# Altium integrated library Linear Technology Power Management Switching Regulator LT1074-LT8705.IntLib: 2252 symbols (part 127 of 148)
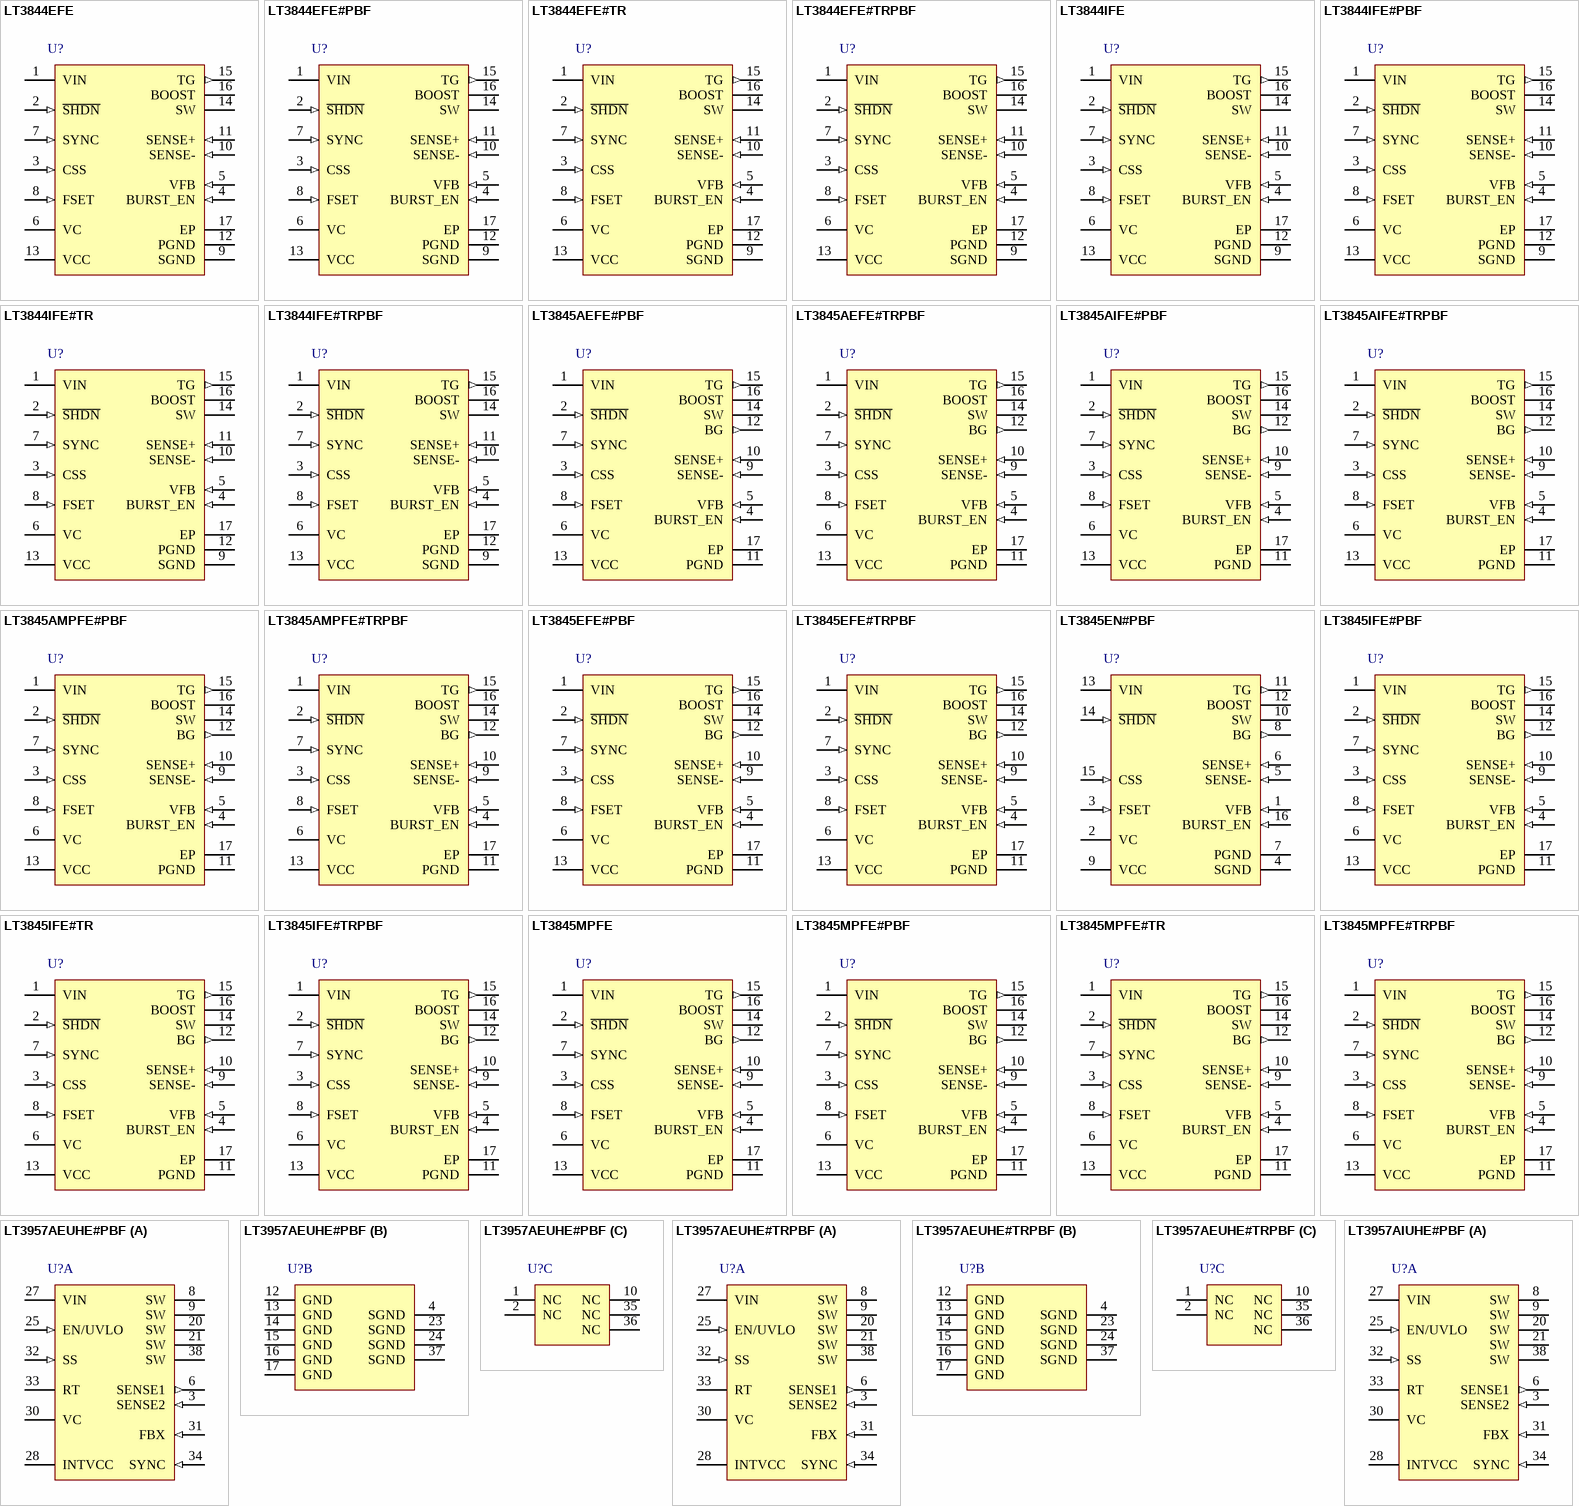
[diagram p197: symbols LT3844EFE to LT3957AIUHE#PBF]

## LT3845MPFE
designator U?
High Voltage Synchronous Current Mode Step-Down Controller with Adjustable Operating Frequency, 16-pin SOP (FE-16-EPV-BC), -55 to 125 degC; Manufacturer: Linear Technology; PartNumber: LT3845MPFE; Frequency Adjust Range: 100kHz - 500kHz; Number of Outputs: 1; DatasheetVersion: Rev. D; PackageVersion: Rev. J, 11/2012; PackageReference: FE-16; PackageDescription: 16-Pin Plastic TSSOP, Body 5 x 4.4 mm, Pitch 0.65 mm; RoHS: FALSE; Mounting Technology: Surface Mount; ComponentLink1Description: Manufacturer URL; ComponentLink1URL: http://www.linear.com/; ComponentLink2Description: Datasheet; ComponentLink2URL: http://cds.linear.com/docs/en/datasheet/3845fd.pdf; ComponentLink3Description: Package Specification; ComponentLink3URL: http://cds.linear.com/docs/en/packaging/05081663__J_FE16(BC).pdf
footprint LT-FE-16-EPV-BC_N (SOP, 16-Leads, Body 5.1x4.5mm, Pitch 0.65mm, Thermal Pad 3.58x2.94mm, IPC Medium Density)
footprint LT-FE-16-EPV-BC_L (SOP, 16-Leads, Body 5.1x4.5mm, Pitch 0.65mm, Thermal Pad 3.58x2.94mm, IPC High Density)
footprint LT-FE-16-EPV-BC_M (SOP, 16-Leads, Body 5.1x4.5mm, Pitch 0.65mm, Thermal Pad 3.58x2.94mm, IPC Low Density)
pins: 1 VIN (power) "The VIN pin is the main supply pin and should be decoupled to SGND with a low ESR capacitor (at least 0.1uF) located close to the pin.", 2 ~{SHDN} (in) "The S\H\D\N\ pin has a precision IC enable threshold of 1.35V (rising) with 120mV of hysteresis. It is used to implement an undervoltage lockout (UVLO) circuit. See Application Information section for implementing a UVLO (See Datasheet)", 3 CSS (in) "The soft-start pin is used to program the supply softstart function. Use the following formula to calculate CSS for a given output voltage slew rate: CSS = 2uA(tSS/1.231V) The pin should be left unconnected when not using (See Datasheet)", 4 BURST_EN (in) "Burst Mode Operation Enable Pin. This pin also controls reverse-current inhibit mode of operation. When the pin voltage is below 0.5V, Burst Mode operation and reverse-current inhibit functions are enabled. When the pin (See Datasheet)", 5 VFB (in) "The output voltage feedback pin, VFB, is externally connected to the supply output voltage via a resistive divider. The VFB pin is internally connected to the inverting input of the error amplifier. In regulation, VFB is 1.(See Datasheet)", 6 VC "The VC pin is the output of the error amplifier whose voltage corresponds to the maximum (peak) switch current per oscillator cycle. The error amplifier is typically configured as an integrator by connecting an RC network (See Datasheet)", 7 SYNC (in) "The Sync pin provides an external clock input for synchronization of the internal oscillator. RSET is set such that the internal oscillator frequency is 10% to 25% below the external clock frequency. If unused the Sync pin (See Datasheet)", 8 FSET (in) "The FSET pin programs the oscillator frequency with an external resistor, RSET. The resistor is required even when supplying external sync clock signal. See the Applications Information section for resistor value selection (See Datasheet)", 9 SENSE- (in) "The SENSE- pin is the negative input for the current sense amplifier and is connected to the VOUT side of the sense resistor for step-down applications.", 10 SENSE+ (in) "The SENSE+ pin is the positive input for the current sense amplifier and is connected to the inductor side of the sense resistor for step-down applications.", 11 PGND (power) "The PGND pin is the high-current ground reference for internal low side switch driver and the VCC regulator circuit. Connect the pin directly to the negative terminal of the VCC decoupling capacitor. See the Application (See Datasheet)", 12 BG (out) "The BG pin is the gate drive for the bottom N-channel MOSFET. Since very fast high currents are driven from this pin, connect it to the gate of the power MOSFET with a short and wide, typically 0.02" width, PCB trace to (See Datasheet)", 13 VCC (power) "The VCC pin is the internal bias supply decoupling node. Use a low ESR, 1uF or greater ceramic capacitor to decouple this node to PGND. Most internal IC functions are powered from this bias supply. An external diode (See Datasheet)", 14 SW "Reference for VBOOST Supply and High Current Return for Bootstrapped Switch.", 15 TG (out) "The TG pin is the bootstrapped gate drive for the top N-Channel MOSFET. Since very fast high currents are driven from this pin, connect it to the gate of the power MOSFET with a short and wide, typically 0.02'' width, PC(See Datasheet)", 16 BOOST "The BOOST pin is the supply for the bootstrapped gate drive and is externally connected to a low ESR ceramic boost capacitor referenced to SW pin. The recommended value of the BOOST capacitor, CBOOST, is at least 50 times (See Datasheet)", 17 EP (power) "The exposed leadframe is internally connected to the SGND pin. Solder the exposed pad to the PCB ground for electrical contact and optimal thermal performance."

## LT3845MPFE#PBF
designator U?
High Voltage Synchronous Current Mode Step-Down Controller with Adjustable Operating Frequency, 16-pin SOP (FE-16-EPV-BC), -55 to 125 degC, Pb-Free; Manufacturer: Linear Technology; PartNumber: LT3845MPFE#PBF; Frequency Adjust Range: 100kHz - 500kHz; Number of Outputs: 1; DatasheetVersion: Rev. D; PackageVersion: Rev. J, 11/2012; PackageReference: FE-16; PackageDescription: 16-Pin Plastic TSSOP, Body 5 x 4.4 mm, Pitch 0.65 mm; Supplier 1: Digi-Key; Supplier Part Number 1: LT3845MPFE#PBF-ND; Supplier 2: Farnell; Supplier Part Number 2: 2115925; Supplier 3: Newark; Supplier Part Number 3: 63R6869; RoHS: TRUE; Mounting Technology: Surface Mount; ComponentLink1Description: Manufacturer URL; ComponentLink1URL: http://www.linear.com/; ComponentLink2Description: Datasheet; ComponentLink2URL: http://cds.linear.com/docs/en/datasheet/3845fd.pdf; ComponentLink3Description: Package Specification; ComponentLink3URL: http://cds.linear.com/docs/en/packaging/05081663__J_FE16(BC).pdf
footprint LT-FE-16-EPV-BC_N (SOP, 16-Leads, Body 5.1x4.5mm, Pitch 0.65mm, Thermal Pad 3.58x2.94mm, IPC Medium Density)
footprint LT-FE-16-EPV-BC_L (SOP, 16-Leads, Body 5.1x4.5mm, Pitch 0.65mm, Thermal Pad 3.58x2.94mm, IPC High Density)
footprint LT-FE-16-EPV-BC_M (SOP, 16-Leads, Body 5.1x4.5mm, Pitch 0.65mm, Thermal Pad 3.58x2.94mm, IPC Low Density)
pins: 1 VIN (power) "The VIN pin is the main supply pin and should be decoupled to SGND with a low ESR capacitor (at least 0.1uF) located close to the pin.", 2 ~{SHDN} (in) "The S\H\D\N\ pin has a precision IC enable threshold of 1.35V (rising) with 120mV of hysteresis. It is used to implement an undervoltage lockout (UVLO) circuit. See Application Information section for implementing a UVLO (See Datasheet)", 3 CSS (in) "The soft-start pin is used to program the supply softstart function. Use the following formula to calculate CSS for a given output voltage slew rate: CSS = 2uA(tSS/1.231V) The pin should be left unconnected when not using (See Datasheet)", 4 BURST_EN (in) "Burst Mode Operation Enable Pin. This pin also controls reverse-current inhibit mode of operation. When the pin voltage is below 0.5V, Burst Mode operation and reverse-current inhibit functions are enabled. When the pin (See Datasheet)", 5 VFB (in) "The output voltage feedback pin, VFB, is externally connected to the supply output voltage via a resistive divider. The VFB pin is internally connected to the inverting input of the error amplifier. In regulation, VFB is 1.(See Datasheet)", 6 VC "The VC pin is the output of the error amplifier whose voltage corresponds to the maximum (peak) switch current per oscillator cycle. The error amplifier is typically configured as an integrator by connecting an RC network (See Datasheet)", 7 SYNC (in) "The Sync pin provides an external clock input for synchronization of the internal oscillator. RSET is set such that the internal oscillator frequency is 10% to 25% below the external clock frequency. If unused the Sync pin (See Datasheet)", 8 FSET (in) "The FSET pin programs the oscillator frequency with an external resistor, RSET. The resistor is required even when supplying external sync clock signal. See the Applications Information section for resistor value selection (See Datasheet)", 9 SENSE- (in) "The SENSE- pin is the negative input for the current sense amplifier and is connected to the VOUT side of the sense resistor for step-down applications.", 10 SENSE+ (in) "The SENSE+ pin is the positive input for the current sense amplifier and is connected to the inductor side of the sense resistor for step-down applications.", 11 PGND (power) "The PGND pin is the high-current ground reference for internal low side switch driver and the VCC regulator circuit. Connect the pin directly to the negative terminal of the VCC decoupling capacitor. See the Application (See Datasheet)", 12 BG (out) "The BG pin is the gate drive for the bottom N-channel MOSFET. Since very fast high currents are driven from this pin, connect it to the gate of the power MOSFET with a short and wide, typically 0.02" width, PCB trace to (See Datasheet)", 13 VCC (power) "The VCC pin is the internal bias supply decoupling node. Use a low ESR, 1uF or greater ceramic capacitor to decouple this node to PGND. Most internal IC functions are powered from this bias supply. An external diode (See Datasheet)", 14 SW "Reference for VBOOST Supply and High Current Return for Bootstrapped Switch.", 15 TG (out) "The TG pin is the bootstrapped gate drive for the top N-Channel MOSFET. Since very fast high currents are driven from this pin, connect it to the gate of the power MOSFET with a short and wide, typically 0.02'' width, PC(See Datasheet)", 16 BOOST "The BOOST pin is the supply for the bootstrapped gate drive and is externally connected to a low ESR ceramic boost capacitor referenced to SW pin. The recommended value of the BOOST capacitor, CBOOST, is at least 50 times (See Datasheet)", 17 EP (power) "The exposed leadframe is internally connected to the SGND pin. Solder the exposed pad to the PCB ground for electrical contact and optimal thermal performance."

## LT3845MPFE#TR
designator U?
High Voltage Synchronous Current Mode Step-Down Controller with Adjustable Operating Frequency, 16-pin SOP (FE-16-EPV-BC), -55 to 125 degC, Pb-Free, Tape and Reel; Manufacturer: Linear Technology; PartNumber: LT3845MPFE#TR; Frequency Adjust Range: 100kHz - 500kHz; Number of Outputs: 1; DatasheetVersion: Rev. D; PackageVersion: Rev. J, 11/2012; PackageReference: FE-16; PackageDescription: 16-Pin Plastic TSSOP, Body 5 x 4.4 mm, Pitch 0.65 mm; Supplier 1: Digi-Key; Supplier Part Number 1: LT3845MPFE#TR-ND; Packing: Tape and Reel; RoHS: TRUE; Mounting Technology: Surface Mount; ComponentLink1Description: Manufacturer URL; ComponentLink1URL: http://www.linear.com/; ComponentLink2Description: Datasheet; ComponentLink2URL: http://cds.linear.com/docs/en/datasheet/3845fd.pdf; ComponentLink3Description: Package Specification; ComponentLink3URL: http://cds.linear.com/docs/en/packaging/05081663__J_FE16(BC).pdf
footprint LT-FE-16-EPV-BC_N (SOP, 16-Leads, Body 5.1x4.5mm, Pitch 0.65mm, Thermal Pad 3.58x2.94mm, IPC Medium Density)
footprint LT-FE-16-EPV-BC_L (SOP, 16-Leads, Body 5.1x4.5mm, Pitch 0.65mm, Thermal Pad 3.58x2.94mm, IPC High Density)
footprint LT-FE-16-EPV-BC_M (SOP, 16-Leads, Body 5.1x4.5mm, Pitch 0.65mm, Thermal Pad 3.58x2.94mm, IPC Low Density)
pins: 1 VIN (power) "The VIN pin is the main supply pin and should be decoupled to SGND with a low ESR capacitor (at least 0.1uF) located close to the pin.", 2 ~{SHDN} (in) "The S\H\D\N\ pin has a precision IC enable threshold of 1.35V (rising) with 120mV of hysteresis. It is used to implement an undervoltage lockout (UVLO) circuit. See Application Information section for implementing a UVLO (See Datasheet)", 3 CSS (in) "The soft-start pin is used to program the supply softstart function. Use the following formula to calculate CSS for a given output voltage slew rate: CSS = 2uA(tSS/1.231V) The pin should be left unconnected when not using (See Datasheet)", 4 BURST_EN (in) "Burst Mode Operation Enable Pin. This pin also controls reverse-current inhibit mode of operation. When the pin voltage is below 0.5V, Burst Mode operation and reverse-current inhibit functions are enabled. When the pin (See Datasheet)", 5 VFB (in) "The output voltage feedback pin, VFB, is externally connected to the supply output voltage via a resistive divider. The VFB pin is internally connected to the inverting input of the error amplifier. In regulation, VFB is 1.(See Datasheet)", 6 VC "The VC pin is the output of the error amplifier whose voltage corresponds to the maximum (peak) switch current per oscillator cycle. The error amplifier is typically configured as an integrator by connecting an RC network (See Datasheet)", 7 SYNC (in) "The Sync pin provides an external clock input for synchronization of the internal oscillator. RSET is set such that the internal oscillator frequency is 10% to 25% below the external clock frequency. If unused the Sync pin (See Datasheet)", 8 FSET (in) "The FSET pin programs the oscillator frequency with an external resistor, RSET. The resistor is required even when supplying external sync clock signal. See the Applications Information section for resistor value selection (See Datasheet)", 9 SENSE- (in) "The SENSE- pin is the negative input for the current sense amplifier and is connected to the VOUT side of the sense resistor for step-down applications.", 10 SENSE+ (in) "The SENSE+ pin is the positive input for the current sense amplifier and is connected to the inductor side of the sense resistor for step-down applications.", 11 PGND (power) "The PGND pin is the high-current ground reference for internal low side switch driver and the VCC regulator circuit. Connect the pin directly to the negative terminal of the VCC decoupling capacitor. See the Application (See Datasheet)", 12 BG (out) "The BG pin is the gate drive for the bottom N-channel MOSFET. Since very fast high currents are driven from this pin, connect it to the gate of the power MOSFET with a short and wide, typically 0.02" width, PCB trace to (See Datasheet)", 13 VCC (power) "The VCC pin is the internal bias supply decoupling node. Use a low ESR, 1uF or greater ceramic capacitor to decouple this node to PGND. Most internal IC functions are powered from this bias supply. An external diode (See Datasheet)", 14 SW "Reference for VBOOST Supply and High Current Return for Bootstrapped Switch.", 15 TG (out) "The TG pin is the bootstrapped gate drive for the top N-Channel MOSFET. Since very fast high currents are driven from this pin, connect it to the gate of the power MOSFET with a short and wide, typically 0.02'' width, PC(See Datasheet)", 16 BOOST "The BOOST pin is the supply for the bootstrapped gate drive and is externally connected to a low ESR ceramic boost capacitor referenced to SW pin. The recommended value of the BOOST capacitor, CBOOST, is at least 50 times (See Datasheet)", 17 EP (power) "The exposed leadframe is internally connected to the SGND pin. Solder the exposed pad to the PCB ground for electrical contact and optimal thermal performance."

## LT3845MPFE#TRPBF
designator U?
High Voltage Synchronous Current Mode Step-Down Controller with Adjustable Operating Frequency, 16-pin SOP (FE-16-EPV-BC), -55 to 125 degC, Pb-Free, Tape and Reel; Manufacturer: Linear Technology; PartNumber: LT3845MPFE#TRPBF; Frequency Adjust Range: 100kHz - 500kHz; Number of Outputs: 1; DatasheetVersion: Rev. D; PackageVersion: Rev. J, 11/2012; PackageReference: FE-16; PackageDescription: 16-Pin Plastic TSSOP, Body 5 x 4.4 mm, Pitch 0.65 mm; Supplier 1: Digi-Key; Supplier Part Number 1: LT3845MPFE#TRPBF-ND; Packing: Tape and Reel; RoHS: TRUE; Mounting Technology: Surface Mount; ComponentLink1Description: Manufacturer URL; ComponentLink1URL: http://www.linear.com/; ComponentLink2Description: Datasheet; ComponentLink2URL: http://cds.linear.com/docs/en/datasheet/3845fd.pdf; ComponentLink3Description: Package Specification; ComponentLink3URL: http://cds.linear.com/docs/en/packaging/05081663__J_FE16(BC).pdf
footprint LT-FE-16-EPV-BC_N (SOP, 16-Leads, Body 5.1x4.5mm, Pitch 0.65mm, Thermal Pad 3.58x2.94mm, IPC Medium Density)
footprint LT-FE-16-EPV-BC_L (SOP, 16-Leads, Body 5.1x4.5mm, Pitch 0.65mm, Thermal Pad 3.58x2.94mm, IPC High Density)
footprint LT-FE-16-EPV-BC_M (SOP, 16-Leads, Body 5.1x4.5mm, Pitch 0.65mm, Thermal Pad 3.58x2.94mm, IPC Low Density)
pins: 1 VIN (power) "The VIN pin is the main supply pin and should be decoupled to SGND with a low ESR capacitor (at least 0.1uF) located close to the pin.", 2 ~{SHDN} (in) "The S\H\D\N\ pin has a precision IC enable threshold of 1.35V (rising) with 120mV of hysteresis. It is used to implement an undervoltage lockout (UVLO) circuit. See Application Information section for implementing a UVLO (See Datasheet)", 3 CSS (in) "The soft-start pin is used to program the supply softstart function. Use the following formula to calculate CSS for a given output voltage slew rate: CSS = 2uA(tSS/1.231V) The pin should be left unconnected when not using (See Datasheet)", 4 BURST_EN (in) "Burst Mode Operation Enable Pin. This pin also controls reverse-current inhibit mode of operation. When the pin voltage is below 0.5V, Burst Mode operation and reverse-current inhibit functions are enabled. When the pin (See Datasheet)", 5 VFB (in) "The output voltage feedback pin, VFB, is externally connected to the supply output voltage via a resistive divider. The VFB pin is internally connected to the inverting input of the error amplifier. In regulation, VFB is 1.(See Datasheet)", 6 VC "The VC pin is the output of the error amplifier whose voltage corresponds to the maximum (peak) switch current per oscillator cycle. The error amplifier is typically configured as an integrator by connecting an RC network (See Datasheet)", 7 SYNC (in) "The Sync pin provides an external clock input for synchronization of the internal oscillator. RSET is set such that the internal oscillator frequency is 10% to 25% below the external clock frequency. If unused the Sync pin (See Datasheet)", 8 FSET (in) "The FSET pin programs the oscillator frequency with an external resistor, RSET. The resistor is required even when supplying external sync clock signal. See the Applications Information section for resistor value selection (See Datasheet)", 9 SENSE- (in) "The SENSE- pin is the negative input for the current sense amplifier and is connected to the VOUT side of the sense resistor for step-down applications.", 10 SENSE+ (in) "The SENSE+ pin is the positive input for the current sense amplifier and is connected to the inductor side of the sense resistor for step-down applications.", 11 PGND (power) "The PGND pin is the high-current ground reference for internal low side switch driver and the VCC regulator circuit. Connect the pin directly to the negative terminal of the VCC decoupling capacitor. See the Application (See Datasheet)", 12 BG (out) "The BG pin is the gate drive for the bottom N-channel MOSFET. Since very fast high currents are driven from this pin, connect it to the gate of the power MOSFET with a short and wide, typically 0.02" width, PCB trace to (See Datasheet)", 13 VCC (power) "The VCC pin is the internal bias supply decoupling node. Use a low ESR, 1uF or greater ceramic capacitor to decouple this node to PGND. Most internal IC functions are powered from this bias supply. An external diode (See Datasheet)", 14 SW "Reference for VBOOST Supply and High Current Return for Bootstrapped Switch.", 15 TG (out) "The TG pin is the bootstrapped gate drive for the top N-Channel MOSFET. Since very fast high currents are driven from this pin, connect it to the gate of the power MOSFET with a short and wide, typically 0.02'' width, PC(See Datasheet)", 16 BOOST "The BOOST pin is the supply for the bootstrapped gate drive and is externally connected to a low ESR ceramic boost capacitor referenced to SW pin. The recommended value of the BOOST capacitor, CBOOST, is at least 50 times (See Datasheet)", 17 EP (power) "The exposed leadframe is internally connected to the SGND pin. Solder the exposed pad to the PCB ground for electrical contact and optimal thermal performance."

## LT3957AEUHE#PBF
designator U?
Boost, Flyback, SEPIC and Inverting Converter with 5 A, 40 V Switch, Improved Load Transient Over LT3957, 36-pin QFN (UHE-36-UHE28MA), -40 to 125 degC, Pb-Free; Manufacturer: Linear Technology; PartNumber: LT3957AEUHE#PBF; Frequency Adjust Range: 100kHz - 1MHz; Number of Outputs: 1; DatasheetVersion: Rev. A; PackageVersion: Rev. D, 02/2012; PackageReference: UHE-36; PackageDescription: 28-Pin Plastic QFN, Body 5 x 6 mm, Pitch 0.5 mm; Supplier 1: Digi-Key; Supplier Part Number 1: LT3957AEUHE#PBF-ND; Supplier 2: Farnell; Supplier Part Number 2: 2097983; Supplier 3: Newark; Supplier Part Number 3: 93T2040; RoHS: TRUE; Mounting Technology: Surface Mount; ComponentLink1Description: Manufacturer URL; ComponentLink1URL: http://www.linear.com/; ComponentLink2Description: Datasheet; ComponentLink2URL: http://cds.linear.com/docs/en/datasheet/3957afa.pdf; ComponentLink3Description: Package Specification; ComponentLink3URL: http://cds.linear.com/docs/en/packaging/QFN_28_05-08-1836.pdf
footprint LT-UHE-36-V-UHE28MA_V (QFN, 28-Leads, Body 6x5mm, Pitch 0.5mm)
part A pins: 3 SENSE2 (in) "The Current Sense Input for the Control Loop. Connect this pin to SENSE1 pin directly or through a low pass filter (connect this pin to SENSE1 pin through a resistor, and to SGND through a capacitor).", 6 SENSE1 (out) "The Current Sense Output of the Internal N-channel MOSFET. Connect this pin to SENSE2 pin directly or through a lowpass filter (connect this pin to SENSE1 pin through a resistor, then connect SENSE2 to SGND through a (See Datasheet)", 8 SW (power) "Drain of Internal Power N-channel MOSFET.", 9 SW (power) "Drain of Internal Power N-channel MOSFET.", 20 SW (power) "Drain of Internal Power N-channel MOSFET.", 21 SW (power) "Drain of Internal Power N-channel MOSFET.", 25 EN/UVLO (in) "Shutdown and Undervoltage Detect Pin. An accurate 1.22V (nominal) falling threshold with externally programmable hysteresis detects when power is okay to enable switching. Rising hysteresis is generated by the external (See Datasheet)", 27 VIN (power) "Input Supply Pin. The VIN pin can be locally bypassed with a capacitor to GND (not SGND).", 28 INTVCC (power), 30 VC "Error Amplifier Compensation Pin. Used to stabilize the voltage loop with an external RC network. Place compensation components between the VC pin and SGND.", 31 FBX (in) "Positive and Negative Feedback Pin. Receives the feedback voltage from the external resistor divider between the output and SGND. Also modulates the switching frequency during start-up and fault conditions when FBX is close (See Datasheet)", 32 SS (in) "Soft-Start Pin. This pin modulates compensation pin voltage (VC) clamp. The soft-start interval is set with an external capacitor between SS pin and SGND. The pin has a 10uA (typical) pull-up current source to an internal 2.(See Datasheet)", 33 RT "Switching Frequency Adjustment Pin. Set the frequency using a resistor to SGND. Do not leave this pin open.", 34 SYNC (in) "Frequency Synchronization Pin. Used to synchronize the switching frequency to an outside clock. If this feature is used, an RT resistor should be chosen to program a switching frequency 20% slower than the SYNC pulse (See Datasheet)", 38 SW (power) "Drain of Internal Power N-channel MOSFET."
part B pins: 4 SGND (power) "Signal Ground. All small-signal components should connect to this ground. SGND is connected to GND inside the IC to ensure Kelvin connection for the internal switch current sensing. Do not connect SGND and GND externally.", 12 GND (power) "Ground. These pins connect to the source terminal of internal power N-channel MOSFET through an internal sense resistor. GND is connected to SGND inside the IC to ensure Kelvin connection for the internal switch current (See Datasheet)", 13 GND (power) "Ground. These pins connect to the source terminal of internal power N-channel MOSFET through an internal sense resistor. GND is connected to SGND inside the IC to ensure Kelvin connection for the internal switch current (See Datasheet)", 14 GND (power) "Ground. These pins connect to the source terminal of internal power N-channel MOSFET through an internal sense resistor. GND is connected to SGND inside the IC to ensure Kelvin connection for the internal switch current (See Datasheet)", 15 GND (power) "Ground. These pins connect to the source terminal of internal power N-channel MOSFET through an internal sense resistor. GND is connected to SGND inside the IC to ensure Kelvin connection for the internal switch current (See Datasheet)", 16 GND (power) "Ground. These pins connect to the source terminal of internal power N-channel MOSFET through an internal sense resistor. GND is connected to SGND inside the IC to ensure Kelvin connection for the internal switch current (See Datasheet)", 17 GND (power) "Ground. These pins connect to the source terminal of internal power N-channel MOSFET through an internal sense resistor. GND is connected to SGND inside the IC to ensure Kelvin connection for the internal switch current (See Datasheet)", 23 SGND (power) "Signal Ground. All small-signal components should connect to this ground. SGND is connected to GND inside the IC to ensure Kelvin connection for the internal switch current sensing. Do not connect SGND and GND externally.", 24 SGND (power) "Signal Ground. All small-signal components should connect to this ground. SGND is connected to GND inside the IC to ensure Kelvin connection for the internal switch current sensing. Do not connect SGND and GND externally.", 37 SGND (power) "Signal Ground. All small-signal components should connect to this ground. SGND is connected to GND inside the IC to ensure Kelvin connection for the internal switch current sensing. Do not connect SGND and GND externally."
part C pins: 1 NC "No Internal Connection. Leave these pins open or connect them to the adjacent pins.", 2 NC "No Internal Connection. Leave these pins open or connect them to the adjacent pins.", 10 NC "No Internal Connection. Leave these pins open or connect them to the adjacent pins.", 35 NC "No Internal Connection. Leave these pins open or connect them to the adjacent pins.", 36 NC "No Internal Connection. Leave these pins open or connect them to the adjacent pins."

## LT3957AEUHE#TRPBF
designator U?
Boost, Flyback, SEPIC and Inverting Converter with 5 A, 40 V Switch, Improved Load Transient Over LT3957, 36-pin QFN (UHE-36-UHE28MA), -40 to 125 degC, Pb-Free, Tape and Reel; Manufacturer: Linear Technology; PartNumber: LT3957AEUHE#TRPBF; Frequency Adjust Range: 100kHz - 1MHz; Number of Outputs: 1; DatasheetVersion: Rev. A; PackageVersion: Rev. D, 02/2012; PackageReference: UHE-36; PackageDescription: 28-Pin Plastic QFN, Body 5 x 6 mm, Pitch 0.5 mm; Supplier 1: Digi-Key; Supplier Part Number 1: LT3957AEUHE#TRPBF-ND; Supplier 2: Newark; Supplier Part Number 2: 94T2261; Packing: Tape and Reel; RoHS: TRUE; Mounting Technology: Surface Mount; ComponentLink1Description: Manufacturer URL; ComponentLink1URL: http://www.linear.com/; ComponentLink2Description: Datasheet; ComponentLink2URL: http://cds.linear.com/docs/en/datasheet/3957afa.pdf; ComponentLink3Description: Package Specification; ComponentLink3URL: http://cds.linear.com/docs/en/packaging/QFN_28_05-08-1836.pdf
footprint LT-UHE-36-V-UHE28MA_V (QFN, 28-Leads, Body 6x5mm, Pitch 0.5mm)
part A pins: 3 SENSE2 (in) "The Current Sense Input for the Control Loop. Connect this pin to SENSE1 pin directly or through a low pass filter (connect this pin to SENSE1 pin through a resistor, and to SGND through a capacitor).", 6 SENSE1 (out) "The Current Sense Output of the Internal N-channel MOSFET. Connect this pin to SENSE2 pin directly or through a lowpass filter (connect this pin to SENSE1 pin through a resistor, then connect SENSE2 to SGND through a (See Datasheet)", 8 SW (power) "Drain of Internal Power N-channel MOSFET.", 9 SW (power) "Drain of Internal Power N-channel MOSFET.", 20 SW (power) "Drain of Internal Power N-channel MOSFET.", 21 SW (power) "Drain of Internal Power N-channel MOSFET.", 25 EN/UVLO (in) "Shutdown and Undervoltage Detect Pin. An accurate 1.22V (nominal) falling threshold with externally programmable hysteresis detects when power is okay to enable switching. Rising hysteresis is generated by the external (See Datasheet)", 27 VIN (power) "Input Supply Pin. The VIN pin can be locally bypassed with a capacitor to GND (not SGND).", 28 INTVCC (power), 30 VC "Error Amplifier Compensation Pin. Used to stabilize the voltage loop with an external RC network. Place compensation components between the VC pin and SGND.", 31 FBX (in) "Positive and Negative Feedback Pin. Receives the feedback voltage from the external resistor divider between the output and SGND. Also modulates the switching frequency during start-up and fault conditions when FBX is close (See Datasheet)", 32 SS (in) "Soft-Start Pin. This pin modulates compensation pin voltage (VC) clamp. The soft-start interval is set with an external capacitor between SS pin and SGND. The pin has a 10uA (typical) pull-up current source to an internal 2.(See Datasheet)", 33 RT "Switching Frequency Adjustment Pin. Set the frequency using a resistor to SGND. Do not leave this pin open.", 34 SYNC (in) "Frequency Synchronization Pin. Used to synchronize the switching frequency to an outside clock. If this feature is used, an RT resistor should be chosen to program a switching frequency 20% slower than the SYNC pulse (See Datasheet)", 38 SW (power) "Drain of Internal Power N-channel MOSFET."
part B pins: 4 SGND (power) "Signal Ground. All small-signal components should connect to this ground. SGND is connected to GND inside the IC to ensure Kelvin connection for the internal switch current sensing. Do not connect SGND and GND externally.", 12 GND (power) "Ground. These pins connect to the source terminal of internal power N-channel MOSFET through an internal sense resistor. GND is connected to SGND inside the IC to ensure Kelvin connection for the internal switch current (See Datasheet)", 13 GND (power) "Ground. These pins connect to the source terminal of internal power N-channel MOSFET through an internal sense resistor. GND is connected to SGND inside the IC to ensure Kelvin connection for the internal switch current (See Datasheet)", 14 GND (power) "Ground. These pins connect to the source terminal of internal power N-channel MOSFET through an internal sense resistor. GND is connected to SGND inside the IC to ensure Kelvin connection for the internal switch current (See Datasheet)", 15 GND (power) "Ground. These pins connect to the source terminal of internal power N-channel MOSFET through an internal sense resistor. GND is connected to SGND inside the IC to ensure Kelvin connection for the internal switch current (See Datasheet)", 16 GND (power) "Ground. These pins connect to the source terminal of internal power N-channel MOSFET through an internal sense resistor. GND is connected to SGND inside the IC to ensure Kelvin connection for the internal switch current (See Datasheet)", 17 GND (power) "Ground. These pins connect to the source terminal of internal power N-channel MOSFET through an internal sense resistor. GND is connected to SGND inside the IC to ensure Kelvin connection for the internal switch current (See Datasheet)", 23 SGND (power) "Signal Ground. All small-signal components should connect to this ground. SGND is connected to GND inside the IC to ensure Kelvin connection for the internal switch current sensing. Do not connect SGND and GND externally.", 24 SGND (power) "Signal Ground. All small-signal components should connect to this ground. SGND is connected to GND inside the IC to ensure Kelvin connection for the internal switch current sensing. Do not connect SGND and GND externally.", 37 SGND (power) "Signal Ground. All small-signal components should connect to this ground. SGND is connected to GND inside the IC to ensure Kelvin connection for the internal switch current sensing. Do not connect SGND and GND externally."
part C pins: 1 NC "No Internal Connection. Leave these pins open or connect them to the adjacent pins.", 2 NC "No Internal Connection. Leave these pins open or connect them to the adjacent pins.", 10 NC "No Internal Connection. Leave these pins open or connect them to the adjacent pins.", 35 NC "No Internal Connection. Leave these pins open or connect them to the adjacent pins.", 36 NC "No Internal Connection. Leave these pins open or connect them to the adjacent pins."

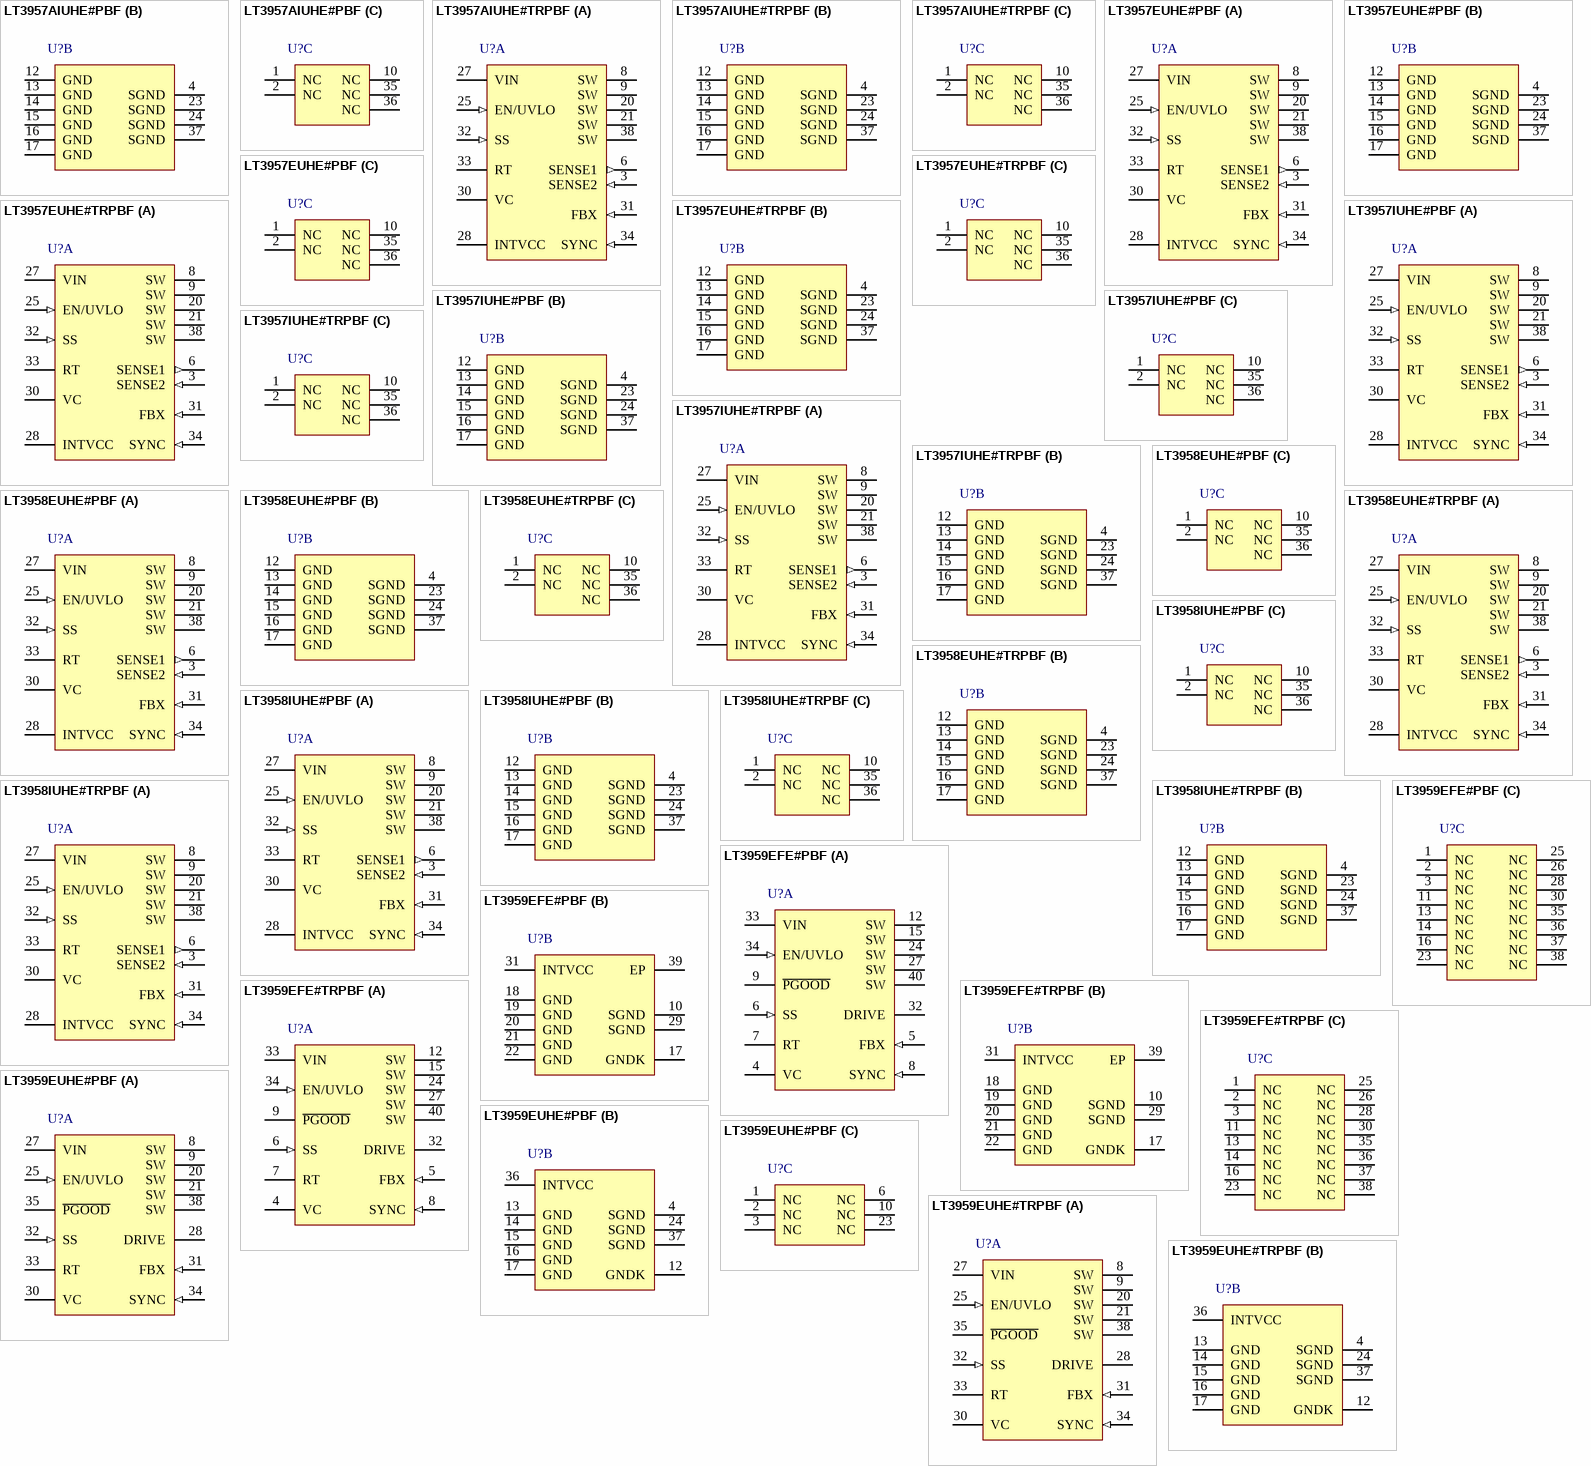
[diagram p61: symbols LT3957AIUHE#PBF to LT3959EUHE#TRPBF]

## LT3957AIUHE#PBF
designator U?
Boost, Flyback, SEPIC and Inverting Converter with 5 A, 40 V Switch, Improved Load Transient Over LT3957, 36-pin QFN (UHE-36-UHE28MA), -40 to 125 degC, Pb-Free; Manufacturer: Linear Technology; PartNumber: LT3957AIUHE#PBF; Frequency Adjust Range: 100kHz - 1MHz; Number of Outputs: 1; DatasheetVersion: Rev. A; PackageVersion: Rev. D, 02/2012; PackageReference: UHE-36; PackageDescription: 28-Pin Plastic QFN, Body 5 x 6 mm, Pitch 0.5 mm; Supplier 1: Digi-Key; Supplier Part Number 1: LT3957AIUHE#PBF-ND; Supplier 2: Farnell; Supplier Part Number 2: 2097984; Supplier 3: Newark; Supplier Part Number 3: 93T2041; RoHS: TRUE; Mounting Technology: Surface Mount; ComponentLink1Description: Manufacturer URL; ComponentLink1URL: http://www.linear.com/; ComponentLink2Description: Datasheet; ComponentLink2URL: http://cds.linear.com/docs/en/datasheet/3957afa.pdf; ComponentLink3Description: Package Specification; ComponentLink3URL: http://cds.linear.com/docs/en/packaging/QFN_28_05-08-1836.pdf
footprint LT-UHE-36-V-UHE28MA_V (QFN, 28-Leads, Body 6x5mm, Pitch 0.5mm)
part A pins: 3 SENSE2 (in) "The Current Sense Input for the Control Loop. Connect this pin to SENSE1 pin directly or through a low pass filter (connect this pin to SENSE1 pin through a resistor, and to SGND through a capacitor).", 6 SENSE1 (out) "The Current Sense Output of the Internal N-channel MOSFET. Connect this pin to SENSE2 pin directly or through a lowpass filter (connect this pin to SENSE1 pin through a resistor, then connect SENSE2 to SGND through a (See Datasheet)", 8 SW (power) "Drain of Internal Power N-channel MOSFET.", 9 SW (power) "Drain of Internal Power N-channel MOSFET.", 20 SW (power) "Drain of Internal Power N-channel MOSFET.", 21 SW (power) "Drain of Internal Power N-channel MOSFET.", 25 EN/UVLO (in) "Shutdown and Undervoltage Detect Pin. An accurate 1.22V (nominal) falling threshold with externally programmable hysteresis detects when power is okay to enable switching. Rising hysteresis is generated by the external (See Datasheet)", 27 VIN (power) "Input Supply Pin. The VIN pin can be locally bypassed with a capacitor to GND (not SGND).", 28 INTVCC (power), 30 VC "Error Amplifier Compensation Pin. Used to stabilize the voltage loop with an external RC network. Place compensation components between the VC pin and SGND.", 31 FBX (in) "Positive and Negative Feedback Pin. Receives the feedback voltage from the external resistor divider between the output and SGND. Also modulates the switching frequency during start-up and fault conditions when FBX is close (See Datasheet)", 32 SS (in) "Soft-Start Pin. This pin modulates compensation pin voltage (VC) clamp. The soft-start interval is set with an external capacitor between SS pin and SGND. The pin has a 10uA (typical) pull-up current source to an internal 2.(See Datasheet)", 33 RT "Switching Frequency Adjustment Pin. Set the frequency using a resistor to SGND. Do not leave this pin open.", 34 SYNC (in) "Frequency Synchronization Pin. Used to synchronize the switching frequency to an outside clock. If this feature is used, an RT resistor should be chosen to program a switching frequency 20% slower than the SYNC pulse (See Datasheet)", 38 SW (power) "Drain of Internal Power N-channel MOSFET."
part B pins: 4 SGND (power) "Signal Ground. All small-signal components should connect to this ground. SGND is connected to GND inside the IC to ensure Kelvin connection for the internal switch current sensing. Do not connect SGND and GND externally.", 12 GND (power) "Ground. These pins connect to the source terminal of internal power N-channel MOSFET through an internal sense resistor. GND is connected to SGND inside the IC to ensure Kelvin connection for the internal switch current (See Datasheet)", 13 GND (power) "Ground. These pins connect to the source terminal of internal power N-channel MOSFET through an internal sense resistor. GND is connected to SGND inside the IC to ensure Kelvin connection for the internal switch current (See Datasheet)", 14 GND (power) "Ground. These pins connect to the source terminal of internal power N-channel MOSFET through an internal sense resistor. GND is connected to SGND inside the IC to ensure Kelvin connection for the internal switch current (See Datasheet)", 15 GND (power) "Ground. These pins connect to the source terminal of internal power N-channel MOSFET through an internal sense resistor. GND is connected to SGND inside the IC to ensure Kelvin connection for the internal switch current (See Datasheet)", 16 GND (power) "Ground. These pins connect to the source terminal of internal power N-channel MOSFET through an internal sense resistor. GND is connected to SGND inside the IC to ensure Kelvin connection for the internal switch current (See Datasheet)", 17 GND (power) "Ground. These pins connect to the source terminal of internal power N-channel MOSFET through an internal sense resistor. GND is connected to SGND inside the IC to ensure Kelvin connection for the internal switch current (See Datasheet)", 23 SGND (power) "Signal Ground. All small-signal components should connect to this ground. SGND is connected to GND inside the IC to ensure Kelvin connection for the internal switch current sensing. Do not connect SGND and GND externally.", 24 SGND (power) "Signal Ground. All small-signal components should connect to this ground. SGND is connected to GND inside the IC to ensure Kelvin connection for the internal switch current sensing. Do not connect SGND and GND externally.", 37 SGND (power) "Signal Ground. All small-signal components should connect to this ground. SGND is connected to GND inside the IC to ensure Kelvin connection for the internal switch current sensing. Do not connect SGND and GND externally."
part C pins: 1 NC "No Internal Connection. Leave these pins open or connect them to the adjacent pins.", 2 NC "No Internal Connection. Leave these pins open or connect them to the adjacent pins.", 10 NC "No Internal Connection. Leave these pins open or connect them to the adjacent pins.", 35 NC "No Internal Connection. Leave these pins open or connect them to the adjacent pins.", 36 NC "No Internal Connection. Leave these pins open or connect them to the adjacent pins."

## LT3957AIUHE#TRPBF
designator U?
Boost, Flyback, SEPIC and Inverting Converter with 5 A, 40 V Switch, Improved Load Transient Over LT3957, 36-pin QFN (UHE-36-UHE28MA), -40 to 125 degC, Pb-Free, Tape and Reel; Manufacturer: Linear Technology; PartNumber: LT3957AIUHE#TRPBF; Frequency Adjust Range: 100kHz - 1MHz; Number of Outputs: 1; DatasheetVersion: Rev. A; PackageVersion: Rev. D, 02/2012; PackageReference: UHE-36; PackageDescription: 28-Pin Plastic QFN, Body 5 x 6 mm, Pitch 0.5 mm; Supplier 1: Digi-Key; Supplier Part Number 1: LT3957AIUHE#TRPBF-ND; Packing: Tape and Reel; RoHS: TRUE; Mounting Technology: Surface Mount; ComponentLink1Description: Manufacturer URL; ComponentLink1URL: http://www.linear.com/; ComponentLink2Description: Datasheet; ComponentLink2URL: http://cds.linear.com/docs/en/datasheet/3957afa.pdf; ComponentLink3Description: Package Specification; ComponentLink3URL: http://cds.linear.com/docs/en/packaging/QFN_28_05-08-1836.pdf
footprint LT-UHE-36-V-UHE28MA_V (QFN, 28-Leads, Body 6x5mm, Pitch 0.5mm)
part A pins: 3 SENSE2 (in) "The Current Sense Input for the Control Loop. Connect this pin to SENSE1 pin directly or through a low pass filter (connect this pin to SENSE1 pin through a resistor, and to SGND through a capacitor).", 6 SENSE1 (out) "The Current Sense Output of the Internal N-channel MOSFET. Connect this pin to SENSE2 pin directly or through a lowpass filter (connect this pin to SENSE1 pin through a resistor, then connect SENSE2 to SGND through a (See Datasheet)", 8 SW (power) "Drain of Internal Power N-channel MOSFET.", 9 SW (power) "Drain of Internal Power N-channel MOSFET.", 20 SW (power) "Drain of Internal Power N-channel MOSFET.", 21 SW (power) "Drain of Internal Power N-channel MOSFET.", 25 EN/UVLO (in) "Shutdown and Undervoltage Detect Pin. An accurate 1.22V (nominal) falling threshold with externally programmable hysteresis detects when power is okay to enable switching. Rising hysteresis is generated by the external (See Datasheet)", 27 VIN (power) "Input Supply Pin. The VIN pin can be locally bypassed with a capacitor to GND (not SGND).", 28 INTVCC (power), 30 VC "Error Amplifier Compensation Pin. Used to stabilize the voltage loop with an external RC network. Place compensation components between the VC pin and SGND.", 31 FBX (in) "Positive and Negative Feedback Pin. Receives the feedback voltage from the external resistor divider between the output and SGND. Also modulates the switching frequency during start-up and fault conditions when FBX is close (See Datasheet)", 32 SS (in) "Soft-Start Pin. This pin modulates compensation pin voltage (VC) clamp. The soft-start interval is set with an external capacitor between SS pin and SGND. The pin has a 10uA (typical) pull-up current source to an internal 2.(See Datasheet)", 33 RT "Switching Frequency Adjustment Pin. Set the frequency using a resistor to SGND. Do not leave this pin open.", 34 SYNC (in) "Frequency Synchronization Pin. Used to synchronize the switching frequency to an outside clock. If this feature is used, an RT resistor should be chosen to program a switching frequency 20% slower than the SYNC pulse (See Datasheet)", 38 SW (power) "Drain of Internal Power N-channel MOSFET."
part B pins: 4 SGND (power) "Signal Ground. All small-signal components should connect to this ground. SGND is connected to GND inside the IC to ensure Kelvin connection for the internal switch current sensing. Do not connect SGND and GND externally.", 12 GND (power) "Ground. These pins connect to the source terminal of internal power N-channel MOSFET through an internal sense resistor. GND is connected to SGND inside the IC to ensure Kelvin connection for the internal switch current (See Datasheet)", 13 GND (power) "Ground. These pins connect to the source terminal of internal power N-channel MOSFET through an internal sense resistor. GND is connected to SGND inside the IC to ensure Kelvin connection for the internal switch current (See Datasheet)", 14 GND (power) "Ground. These pins connect to the source terminal of internal power N-channel MOSFET through an internal sense resistor. GND is connected to SGND inside the IC to ensure Kelvin connection for the internal switch current (See Datasheet)", 15 GND (power) "Ground. These pins connect to the source terminal of internal power N-channel MOSFET through an internal sense resistor. GND is connected to SGND inside the IC to ensure Kelvin connection for the internal switch current (See Datasheet)", 16 GND (power) "Ground. These pins connect to the source terminal of internal power N-channel MOSFET through an internal sense resistor. GND is connected to SGND inside the IC to ensure Kelvin connection for the internal switch current (See Datasheet)", 17 GND (power) "Ground. These pins connect to the source terminal of internal power N-channel MOSFET through an internal sense resistor. GND is connected to SGND inside the IC to ensure Kelvin connection for the internal switch current (See Datasheet)", 23 SGND (power) "Signal Ground. All small-signal components should connect to this ground. SGND is connected to GND inside the IC to ensure Kelvin connection for the internal switch current sensing. Do not connect SGND and GND externally.", 24 SGND (power) "Signal Ground. All small-signal components should connect to this ground. SGND is connected to GND inside the IC to ensure Kelvin connection for the internal switch current sensing. Do not connect SGND and GND externally.", 37 SGND (power) "Signal Ground. All small-signal components should connect to this ground. SGND is connected to GND inside the IC to ensure Kelvin connection for the internal switch current sensing. Do not connect SGND and GND externally."
part C pins: 1 NC "No Internal Connection. Leave these pins open or connect them to the adjacent pins.", 2 NC "No Internal Connection. Leave these pins open or connect them to the adjacent pins.", 10 NC "No Internal Connection. Leave these pins open or connect them to the adjacent pins.", 35 NC "No Internal Connection. Leave these pins open or connect them to the adjacent pins.", 36 NC "No Internal Connection. Leave these pins open or connect them to the adjacent pins."